# Altium schematic symbol library led.SchLib: 1 symbol
Pins are listed as number, name and electrical type; pins without a type are passive.

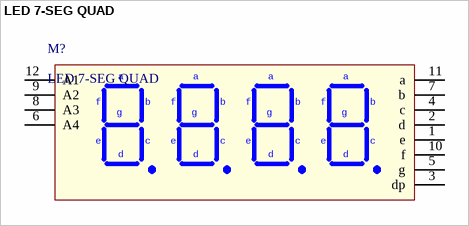
[diagram p0: symbol LED 7-SEG QUAD]

## LED 7-SEG QUAD
designator M?
LED 7-SEG 0.56 QUAD RED
footprint LED/7SEG/0.56/QUAD
pins: 1 e, 2 d, 3 dp, 4 c, 5 g, 6 A4, 7 b, 8 A3, 9 A2, 10 f, 11 a, 12 A1